# Altium schematic symbol library Microver.SchLib: 988 symbols (part 4 of 17)
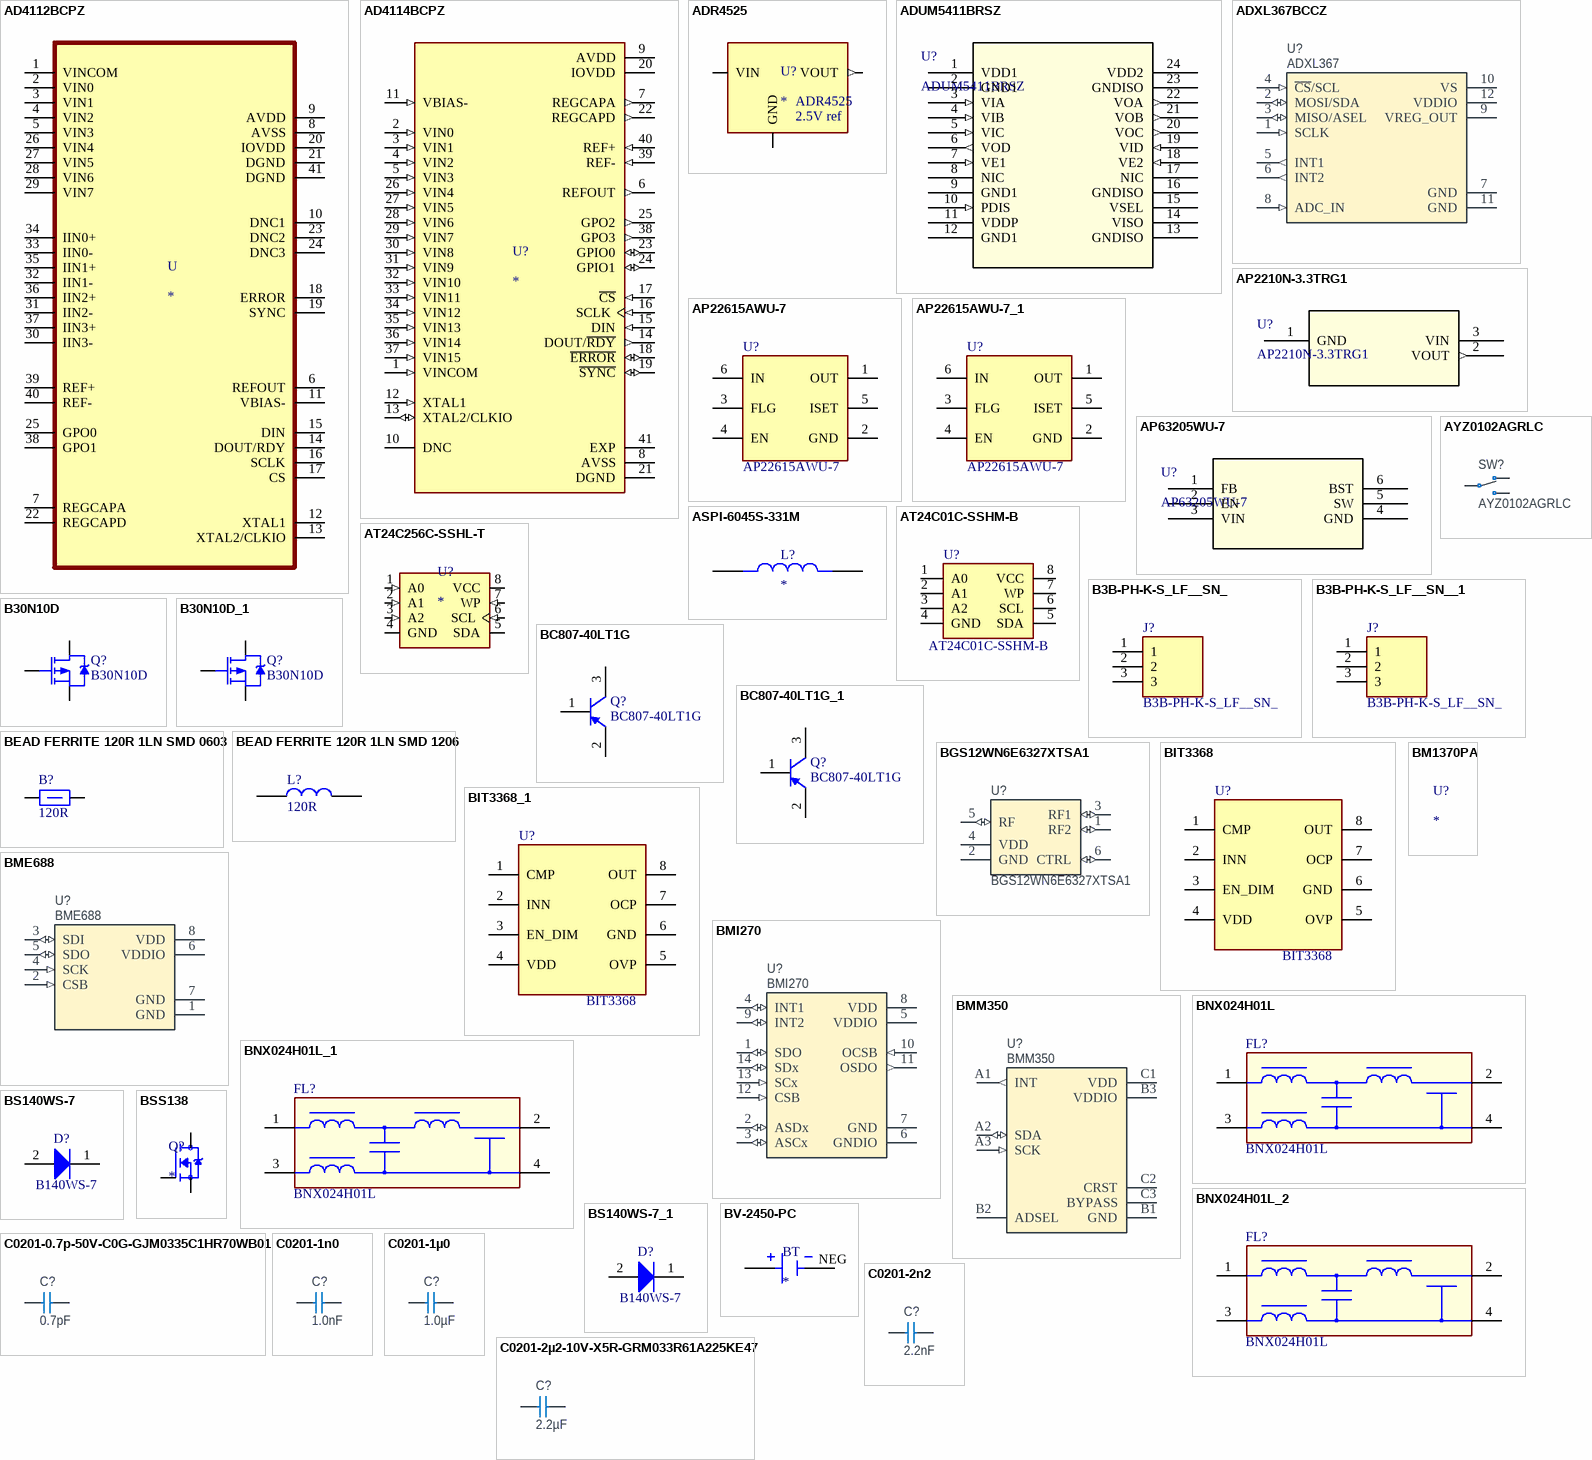
[diagram p32: symbols AD4112BCPZ to C0201-2µ2-10V-X5R-GRM033R61A225KE47]

## BC807-40LT1G
designator Q?
General Purpose Transistor, PNP Silicon, 3-Pin SOT-23, Pb-Free, Tape and Reel; Manufacturer: ON Semiconductor; Max Power Dissipation: 300mW; hFE Min: 250; Number of Elements: 1; Collector Emitter Voltage (VCEO): 45V; Frequency: 100MHz; Emitter Base Voltage (VEBO): 5V; Max Collector Current: 500mA; Collector Base Voltage (VCBO): 50V; Collector Emitter Saturation Voltage: -700mV; Element Configuration: Single; Collector-emitter Voltage-Max: 700mV; ComponentLink3URL: http://www.onsemi.cn/pub_link/Collateral/318-08.PDF; ComponentLink1URL: http://www.onsemi.com/; ComponentLink2URL: http://www.onsemi.com/pub_link/Collateral/BC807-16LT1-D.PDF; ComponentLink1Description: Manufacturer URL; ComponentLink3Description: Package Specification; ComponentLink2Description: Datasheet; Supplier 1: Digi-Key; Supplier Part Number 1: BC807-40LT1GOSCT-ND; Manufacturer Part Number: BC807-40LT1G; RoHS: Yes; Category: BJTs; Pricing 1: 1=0,21000, 10=0,19600, 100=0,10690, 500=0,06576, 1000=0,04484 (USD); Case/Package: SOT-23-3; Number of Pins: 3; Contact Plating: Tin,Matte; Min Operating Temperature: -55°C; Max Operating Temperature: 150°C; Package Quantity: 1; Packaging: Tape and Reel; Polarity: PNP; Transition Frequency: 100MHz; Collector Emitter Breakdown Voltage: 45V; Power Dissipation: 300mW; Gain Bandwidth Product: 100MHz; Series: BC807-40L; Max Breakdown Voltage: 45V; Max Frequency: 100MHz; Length: 2.9mm; Width: 1.3mm; Height: 0.94mm; Radiation Hardening: No; Lead Free: Lead Free; Halogen Free: Halogen Free; RoHS Compliant: Yes; REACH SVHC: No SVHC; ComponentLink4URL: https://datasheet.ciiva.com/15138/getdatasheetpartid-38541-15138619.pdf?src-supplier=Verical; ComponentLink4Description: https://datasheet.ciiva.com/15138/getdatasheetpartid-38541-15138619.pdf?src-supplier=Verical; ComponentLink5URL: https://datasheet.ciiva.com/976/bc807-16lt1-d-976422.pdf?src-supplier=Digi-Key; ComponentLink5Description: https://datasheet.ciiva.com/976/bc807-16lt1-d-976422.pdf?src-supplier=Digi-Key; ComponentLink6URL: https://datasheet.ciiva.com/976/bc807-16lt1-d-976423.pdf?src-supplier=Digi-Key; ComponentLink6Description: https://datasheet.ciiva.com/976/bc807-16lt1-d-976423.pdf?src-supplier=Digi-Key; ComponentLink7URL: https://datasheet.ciiva.com/976/bc807-16lt1-d-976424.pdf?src-supplier=Digi-Key; ComponentLink7Description: https://datasheet.ciiva.com/976/bc807-16lt1-d-976424.pdf?src-supplier=Digi-Key; ComponentLink8URL: https://datasheet.ciiva.com/22633/1575992-22633676.pdf?src-supplier=Element14; ComponentLink8Description: https://datasheet.ciiva.com/22633/1575992-22633676.pdf?src-supplier=Element14; ComponentLink9URL: https://datasheet.ciiva.com/16213/bc807-16lt1-d-16213981.pdf?src-supplier=Future+Electronics; ComponentLink9Description: https://datasheet.ciiva.com/16213/bc807-16lt1-d-16213981.pdf?src-supplier=Future+Electronics; ComponentLink10URL: https://datasheet.ciiva.com/22633/1575992-22633677.pdf?src-supplier=Element14; ComponentLink10Description: https://datasheet.ciiva.com/22633/1575992-22633677.pdf?src-supplier=Element14; ComponentLink11URL: https://datasheet.ciiva.com/25917/bc807-16lt1-d-25917198.pdf?src-supplier=Avnet+Europe; ComponentLink11Description: https://datasheet.ciiva.com/25917/bc807-16lt1-d-25917198.pdf?src-supplier=Avnet+Europe; LCSC Part Number: BC807-40LT1G
footprint ONSC-SOT-23-3-318-08_V
pins: 1 B, 2 E, 3 C

## BC807-40LT1G_1
designator Q?, comment BC807-40LT1G
General Purpose Transistor, PNP Silicon, 3-Pin SOT-23, Pb-Free, Tape and Reel; Manufacturer: ON Semiconductor; Max Power Dissipation: 300mW; hFE Min: 250; Number of Elements: 1; Collector Emitter Voltage (VCEO): 45V; Frequency: 100MHz; Emitter Base Voltage (VEBO): 5V; Max Collector Current: 500mA; Collector Base Voltage (VCBO): 50V; Collector Emitter Saturation Voltage: -700mV; Element Configuration: Single; Collector-emitter Voltage-Max: 700mV; ComponentLink3URL: http://www.onsemi.cn/pub_link/Collateral/318-08.PDF; ComponentLink1URL: http://www.onsemi.com/; ComponentLink2URL: http://www.onsemi.com/pub_link/Collateral/BC807-16LT1-D.PDF; ComponentLink1Description: Manufacturer URL; ComponentLink3Description: Package Specification; ComponentLink2Description: Datasheet; Supplier 1: Digi-Key; Supplier Part Number 1: BC807-40LT1GOSCT-ND; Manufacturer Part Number: BC807-40LT1G; RoHS: Yes; Category: BJTs; Pricing 1: 1=0,21000, 10=0,19600, 100=0,10690, 500=0,06576, 1000=0,04484 (USD); Case/Package: SOT-23-3; Number of Pins: 3; Contact Plating: Tin,Matte; Min Operating Temperature: -55°C; Max Operating Temperature: 150°C; Package Quantity: 1; Packaging: Tape and Reel; Polarity: PNP; Transition Frequency: 100MHz; Collector Emitter Breakdown Voltage: 45V; Power Dissipation: 300mW; Gain Bandwidth Product: 100MHz; Series: BC807-40L; Max Breakdown Voltage: 45V; Max Frequency: 100MHz; Length: 2.9mm; Width: 1.3mm; Height: 0.94mm; Radiation Hardening: No; Lead Free: Lead Free; Halogen Free: Halogen Free; RoHS Compliant: Yes; REACH SVHC: No SVHC; ComponentLink4URL: https://datasheet.ciiva.com/15138/getdatasheetpartid-38541-15138619.pdf?src-supplier=Verical; ComponentLink4Description: https://datasheet.ciiva.com/15138/getdatasheetpartid-38541-15138619.pdf?src-supplier=Verical; ComponentLink5URL: https://datasheet.ciiva.com/976/bc807-16lt1-d-976422.pdf?src-supplier=Digi-Key; ComponentLink5Description: https://datasheet.ciiva.com/976/bc807-16lt1-d-976422.pdf?src-supplier=Digi-Key; ComponentLink6URL: https://datasheet.ciiva.com/976/bc807-16lt1-d-976423.pdf?src-supplier=Digi-Key; ComponentLink6Description: https://datasheet.ciiva.com/976/bc807-16lt1-d-976423.pdf?src-supplier=Digi-Key; ComponentLink7URL: https://datasheet.ciiva.com/976/bc807-16lt1-d-976424.pdf?src-supplier=Digi-Key; ComponentLink7Description: https://datasheet.ciiva.com/976/bc807-16lt1-d-976424.pdf?src-supplier=Digi-Key; ComponentLink8URL: https://datasheet.ciiva.com/22633/1575992-22633676.pdf?src-supplier=Element14; ComponentLink8Description: https://datasheet.ciiva.com/22633/1575992-22633676.pdf?src-supplier=Element14; ComponentLink9URL: https://datasheet.ciiva.com/16213/bc807-16lt1-d-16213981.pdf?src-supplier=Future+Electronics; ComponentLink9Description: https://datasheet.ciiva.com/16213/bc807-16lt1-d-16213981.pdf?src-supplier=Future+Electronics; ComponentLink10URL: https://datasheet.ciiva.com/22633/1575992-22633677.pdf?src-supplier=Element14; ComponentLink10Description: https://datasheet.ciiva.com/22633/1575992-22633677.pdf?src-supplier=Element14; ComponentLink11URL: https://datasheet.ciiva.com/25917/bc807-16lt1-d-25917198.pdf?src-supplier=Avnet+Europe; ComponentLink11Description: https://datasheet.ciiva.com/25917/bc807-16lt1-d-25917198.pdf?src-supplier=Avnet+Europe; LCSC Part Number: BC807-40LT1G
footprint ONSC-SOT-23-3-318-08_V
pins: 1 B, 2 E, 3 C

## BEAD FERRITE 120R 1LN SMD 0603
designator B?  value 120R  (hidden comment: BEAD FERRITE 120R 1LN SMD 0603)
Manufacturer: MURATA; Manufacturer Part Name: BLM18PG121SN1D; Code: 3030007; Family: BEAD; Supplier: Digikey; Supplier No: 490-1037-2-ND; Package Reference: F1206
footprint F0603 (WE-CBF SMD EMI Suppression Ferrite Bead)
pins: 1, 2

## BEAD FERRITE 120R 1LN SMD 1206
designator L?  value 120R  (hidden comment: BEAD FERRITE 120R 1LN SMD 1206)
Manufacturer: LAIRD; Manufacturer Part Name: LI1206H121R-10; Code: 3030001; Family: BEAD; Supplier: Digikey; Supplier No: 240-2401-2-ND; Package Reference: F1206
footprint F1206N (Chip Inductor, Body 3.2x1.6mm, IPC Medium Density)
pins: 1, 2

## BGS12WN6E6327XTSA1
designator U?, comment value BGS12WN6E6327XTSA1  (hidden comment: BGS12xN6)
Wideband SPDT RF Switch, 50MHz-6GHz. Max 26dBm, 1.65-3.6V; Manufacturer: Infineon Technologies; Part number NEMS: 101900784; Component Status: Active; Pad Count: 6; Note: N.A.; Part Number: BGS12WN6E6327XTSA1; Component Class: Misc_ICs; Author: getr; Manufacturer Part Number: BGS12WN6E6327XTSA1; ComponentLink1URL: https://www.infineon.com/dgdl/Infineon-BGS12WN6-DataSheet-v01_00-EN.pdf?fileId=5546d4626b2d8e69016b89d2b3334727; ComponentLink1Description: Datasheet; ComponentLink2URL: https://www.digikey.no/en/products/detail/infineon-technologies/BGS12WN6E6327XTSA1/11500249?s=N4IgTCBcDaIEIHEDKBGMB1AcgNgKLYGYwB2ADQBUkBBFEAXQF8g; ComponentLink2Description: Supplier link; HelpURL: https://www.infineon.com/cms/en/product/rf/rf-switches-spxt-dpxt/bgs12wn6/; LatestRevisionDate: 2023-06-26; Published: 2023-06-26; Footprint Doc: TSNP-6-8; Supplier 1: Digi-Key; Supplier Part Number 1: 448-BGS12WN6E6327XTSA1CT-ND; Supplier 2: N.A.; Supplier Part Number 2: N.A.; Artikkelnr Noca: N.A.; Part number IPS: N.A.; Part number Norautron: N.A.; PartId: 101900784
footprint TSNP-6-8
pins: 1 RF2 (io), 2 GND (power), 3 RF1 (io), 4 VDD (power), 5 RF (io), 6 CTRL (io), 8 NC hidden

## BIT3368
designator U?, comment Manufacturer Part Number: BIT3368  (hidden comment: BIT3368 LED DRIVER CONTROLLER)
High Performance PWM Controller; Manufacturer: BITEK; LSCS Part Number: C5252694
footprint SOP-8_L4.9-W3.9-P1.27-LS6.0-BL
pins: 1 CMP, 2 INN, 3 EN_DIM, 4 VDD, 5 OVP, 6 GND, 7 OCP, 8 OUT

## BIT3368_1
designator U?, comment Manufacturer Part Number: BIT3368  (hidden comment: BIT3368 LED DRIVER CONTROLLER)
High Performance PWM Controller; Manufacturer: BITEK; LSCS Part Number: C5252694
footprint SOP-8_L4.9-W3.9-P1.27-LS6.0-BL
pins: 1 CMP, 2 INN, 3 EN_DIM, 4 VDD, 5 OVP, 6 GND, 7 OCP, 8 OUT

## BM1370PA
designator U?

## BME688
designator U?
Low power gas, pressure, temperature & humidity sensor; Manufacturer: Bosch; Part number NEMS: 101900619; Note: N.A.; Component Status: Active; Pad Count: 8; Part Number: BME688; Manufacturer Part Number: BME688; Footprint Doc: LGA-8; LatestRevisionDate: 2020-07-07; Published: 2020-07-07; Value: BME688; Artikkelnr Noca: N.A.; Part number IPS: N.A.; ComponentLink1URL: https://ae-bst.resource.bosch.com/media/_tech/media/datasheets/BST-BME680-DS001-00.pdf; ComponentLink1Description: Datasheet; ComponentLink2Description: Supplier link; HelpURL: N.A.; Supplier 1: Digi-Key; Supplier Part Number 1: N.A.; Supplier 2: N.A.; Supplier Part Number 2: N.A.; PartId: 101900619; Component Class: Misc_ICs; Author: rsk; ComponentLink2URL: N.A.; Part number Norautron: N.A.
footprint BME680
pins: 1 GND (power), 2 CSB (in), 3 SDI (io), 4 SCK (in), 5 SDO (io), 6 VDDIO (power) "1.2V - 3.6V", 7 GND (power), 8 VDD (power) "1.71V - 3.6V"

## BMI270
designator U?
6-axis, smart, low-power, inertial measurement unit; Manufacturer: Bosch; Part number NEMS: 101900620; Note: N.A.; Pad Count: 14; Component Status: Active; Part Number: BMI270; Manufacturer Part Number: BMI270; ComponentLink1URL: https://www.bosch-sensortec.com/media/boschsensortec/downloads/datasheets/bst-bmi270-ds000.pdf; ComponentLink1Description: Datasheet; ComponentLink2URL: https://www.bosch-sensortec.com/products/motion-sensors/imus/bmi270.html; ComponentLink2Description: Supplier link; HelpURL: https://www.bosch-sensortec.com/media/boschsensortec/downloads/datasheets/bst-bmi270-ds000.pdf; Footprint Doc: LGA-14; LatestRevisionDate: 2021-08-03; Published: 2020-07-07; Value: BMI270; Supplier 1: Digi-Key; Supplier Part Number 1: 828-1091-1-ND; Supplier 2: Mouser; Supplier Part Number 2: 262-BMI270; Artikkelnr Noca: N.A.; Part number IPS: N.A.; Component Class: Misc_ICs; PartId: 101900620; Author: rsk; Part number Norautron: N.A.
footprint BMI270
pins: 1 SDO (io), 2 ASDx (io), 3 ASCx (io), 4 INT1 (io), 5 VDDIO (power), 6 GNDIO (power), 7 GND (power), 8 VDD (power), 9 INT2 (io), 10 OCSB (in), 11 OSDO (out), 12 CSB (in), 13 SCx (in), 14 SDx (io)

## BMM350
designator U?
Magnetoresistive Sensor X, Y, Z Axis 9-WLCSP (1.28x1.28); Manufacturer: Bosch Sensortec; Part number NEMS: 101900817; Component Status: Active; Pad Count: 9; Note: N.A.; Part Number: BMM350; PartId: 101900817; Component Class: Misc_ICs; Author: getr; Manufacturer Part Number: BMM350; ComponentLink1URL: https://www.bosch-sensortec.com/media/boschsensortec/downloads/datasheets/bst-bmm350-ds001.pdf; ComponentLink1Description: Datasheet; ComponentLink2URL: https://www.digikey.no/en/products/detail/bosch-sensortec/BMM350/17827576; ComponentLink2Description: Supplier link; HelpURL: https://www.bosch-sensortec.com/products/motion-sensors/magnetometers/bmm350/#description; LatestRevisionDate: 2024-04-26; Published: 2024-04-26; Footprint Doc: WLSCP-9; Value: BMM350; Supplier 1: Digi-Key; Supplier Part Number 1: 828-BMM350CT-ND; Supplier 2: Mouser; Supplier Part Number 2: 262-BMM350; Artikkelnr Noca: N.A.; Part number IPS: N.A.; Part number Norautron: N.A.
footprint BGA9C40P3X3_128X128X54
pins: A1 INT (out), A2 SDA (io), A3 SCK (in), B1 GND (power), B2 ADSEL (power), B3 VDDIO (power), C1 VDD (power), C2 CRST (power), C3 BYPASS (power)

## BNX024H01L
designator FL?, comment Manufacturer Part Number: BNX024H01L  (hidden comment: FILTER LC 4.7UF SMD)
LC EMI Filter 5th Order Low Pass 2 Channel C = 4.7µF 20 A 4-SMD, No Lead; Order Code: Digi: 490-7833-2-ND; LCSC Manufacturer Part Number: BNX024H01L; LCSC Part Number: C124739
footprint Murata_BNX02_MFG
pins: 1 B, 2 CB, 3 PSG, 4 CG

## BNX024H01L_1
designator FL?, comment Manufacturer Part Number: BNX024H01L  (hidden comment: FILTER LC 4.7UF SMD)
LC EMI Filter 5th Order Low Pass 2 Channel C = 4.7µF 20 A 4-SMD, No Lead; Order Code: Digi: 490-7833-2-ND; LCSC Manufacturer Part Number: BNX024H01L; LCSC Part Number: C124739
footprint Murata_BNX02_MFG
pins: 1 B, 2 CB, 3 PSG, 4 CG

## BNX024H01L_2
designator FL?, comment Manufacturer Part Number: BNX024H01L  (hidden comment: FILTER LC 4.7UF SMD)
LC EMI Filter 5th Order Low Pass 2 Channel C = 4.7µF 20 A 4-SMD, No Lead; Order Code: Digi: 490-7833-2-ND; LCSC Manufacturer Part Number: BNX024H01L; LCSC Part Number: C124739
footprint Murata_BNX02_MFG
pins: 1 B, 2 CB, 3 PSG, 4 CG

## BS140WS-7
designator D?, comment Manufacturer Part Number: B140WS-7  (hidden comment: DIODE SCHOTTKY 40V 1A SOD323)
Diode 40 V 1A Surface Mount SOD-323; Order Code: Digi: B140WS-7DITR-ND; LCSC Manufacturer Part Number: B140WS-7; LCSC Part Number: C95171
footprint SOD-323_L1.8-W1.3-LS2.5-RD
pins: 1 K, 2 A

## BS140WS-7_1
designator D?, comment Manufacturer Part Number: B140WS-7  (hidden comment: DIODE SCHOTTKY 40V 1A SOD323)
Diode 40 V 1A Surface Mount SOD-323; Order Code: Digi: B140WS-7DITR-ND; LCSC Manufacturer Part Number: B140WS-7; LCSC Part Number: C95171
footprint SOD-323_L1.8-W1.3-LS2.5-RD
pins: 1 K, 2 A

## BSS138
designator Q?
N-Channel 50 V 220mA (Ta) 350mW (Ta) Surface Mount SOT-23-3; MF: onsemi; MP: BSS138; SnapEDA_Link: https://www.snapeda.com/parts/BSS138/Onsemi/view-part/?ref=snap; Package: SOT-23-3 ON Semiconductor; Value: *; Check_prices: https://www.snapeda.com/parts/BSS138/Onsemi/view-part/?ref=eda
footprint SOT95P240X111-3N
pins: 1 G, 2 S, 3 D

## BV-2450-PC
designator BT
BATTERY HOLDER COIN 24MM PC PIN; MP: BV-2450-PC; MF: MPD; Value: *; SnapEDA_Link: https://www.snapeda.com/parts/BV-2450-PC/Memory%20Protection%20Devices/view-part/4219619/?ref=snap; Availability: Unavailable; Price: None; Package: NONSTANDARD
footprint BAT_BV-2450-PC
pins: NEG, S1+ POS, S2+ POS

## C0201-0.7p-50V-C0G-GJM0335C1HR70WB01
designator C?, comment 0.7pF
Capacitor, Ceramic, C0G, ±0.05pF, 50V; Part Number: C0201-0.7p-50V-C0G-GJM0335C1HR70WB01; Manufacturer: Murata; Manufacturer Part Number: GJM0335C1HR70WB01D; Part number NEMS: 100200011; Pad Count: 2; Artikkelnr Noca: N.A.; Component Status: Active; Value: 0.7pF; Footprint Doc: 0201; Component Class: Capacitors; Author: rsk; ComponentLink1Description: Datasheet; ComponentLink1URL: https://search.murata.co.jp/Ceramy/image/img/A01X/G101/ENG/GJM0335C1HR70WB01-01.pdf; ComponentLink2Description: Supplier link; ComponentLink2URL: https://www.murata.com/en-global/products/productdetail?partno=GJM0335C1HR70WB01%23; HelpURL: N.A.; LatestRevisionDate: 2023-03-27; Note: 50V; PartId: 100200011; Part number IPS: N.A.; Part number Norautron: N.A.; Published: 2014-11-13; Supplier 1: Digi-Key; Supplier 2: Mouser; Supplier Part Number 1: 490-17145-1-ND; Supplier Part Number 2: 81-GJM0335C1HR70WB1D
footprint CAPC0603X03L_C
pins: 1, 2

## C0201-1n0
designator C?, comment 1.0nF
Capacitor, X7R, ±10%, 25V; Part Number: C0201-1n0; Manufacturer: N.A.; Part number IPS: 00000003206; Part number NEMS: 100200056; Component Status: Active; Pad Count: 2; Note: 16V; PartId: 100200056; Component Class: Capacitors; Author: rsk; Manufacturer Part Number: N.A.; ComponentLink1URL: N.A.; ComponentLink1Description: Datasheet; ComponentLink2URL: N.A.; ComponentLink2Description: Supplier link; HelpURL: N.A.; LatestRevisionDate: 2020-10-13; Published: 2014-11-13; Footprint Doc: 0201; Value: 1.0nF; Supplier 1: N.A.; Supplier Part Number 1: N.A.; Supplier 2: N.A.; Supplier Part Number 2: N.A.; Artikkelnr Noca: N.A.; Part number Norautron: N.A.
footprint CAPC0603X03L_C
pins: 1, 2

## C0201-1µ0
designator C?, comment 1.0µF
Capacitor, X5R, ±10%; Part Number: C0201-1µ0; Manufacturer: N.A.; Part number IPS: 00000001723; Part number NEMS: 100200084; Pad Count: 2; Component Status: Active; Note: 10V; Component Class: Capacitors; Author: rsk; Footprint Doc: 0201; Value: 1.0µF; PartId: 100200084; Manufacturer Part Number: N.A.; ComponentLink1URL: N.A.; ComponentLink1Description: Datasheet; ComponentLink2URL: N.A.; ComponentLink2Description: Supplier link; HelpURL: N.A.; LatestRevisionDate: 2016-08-22; Published: 2009-05-08; Supplier 1: Digi-Key; Supplier Part Number 1: 1276-6795-1-ND; Supplier 2: N.A.; Supplier Part Number 2: N.A.; Artikkelnr Noca: N.A.; Part number Norautron: N.A.
footprint CAPC0603X03L_C
pins: 1, 2

## C0201-2n2
designator C?, comment 2.2nF
Capacitor, X7R, ±10%, 10V; Part Number: C0201-2n2; Part number IPS: 00000001778; Part number Norautron: 26470002; Part number NEMS: 100200060; Pad Count: 2; Artikkelnr Noca: N.A.; Component Status: Active; Value: 2.2nF; Footprint Doc: 0201; Component Class: Capacitors; Author: rsk; ComponentLink1Description: Datasheet; ComponentLink1URL: N.A.; ComponentLink2Description: Supplier link; ComponentLink2URL: N.A.; HelpURL: N.A.; LatestRevisionDate: 2014-11-13; Manufacturer: N.A.; Manufacturer Part Number: N.A.; Note: 10V; PartId: 100200060; Published: 2014-11-13; Supplier 1: N.A.; Supplier 2: N.A.; Supplier Part Number 1: N.A.; Supplier Part Number 2: N.A.
footprint CAPC0603X03L_C
pins: 1, 2

## C0201-2µ2-10V-X5R-GRM033R61A225KE47
designator C?, comment 2.2µF
Capacitor, Ceramic, 2.2µF 10V X5R 0201,±10%; Part Number: C0201-2µ2-10V-X5R-GRM033R61A225KE47; Manufacturer: Murata; Manufacturer Part Number: GRM033R61A225KE47D; Part number NEMS: 100200496; Pad Count: 2; Artikkelnr Noca: N.A.; Component Status: Active; Component Class: Capacitors; Author: prbu; ComponentLink1URL: https://www.murata.com/en-sg/products/productdetail?partno=GRM033R61A225KE47%23; ComponentLink1Description: Datasheet; ComponentLink2URL: https://www.mouser.com/ProductDetail/Murata-Electronics/GRM033R61A225KE47D?qs=I53XXhTNm8tqgHaFsI1bug%3D%3D; ComponentLink2Description: Supplier link; HelpURL: N.A.; Footprint Doc: 0201; LatestRevisionDate: 2021-12-09; Published: 2021-12-09; Value: 2.2µF; Note: 10V; Supplier 1: Mouser; Supplier Part Number 1: 81-GRM033R61A225KE7D; Supplier 2: Digi-Key; Supplier Part Number 2: 490-13227-1-ND; Part number IPS: N.A.; Part number Norautron: N.A.; PartId: 100200496
footprint CAPC0603X03L_C
pins: 1, 2

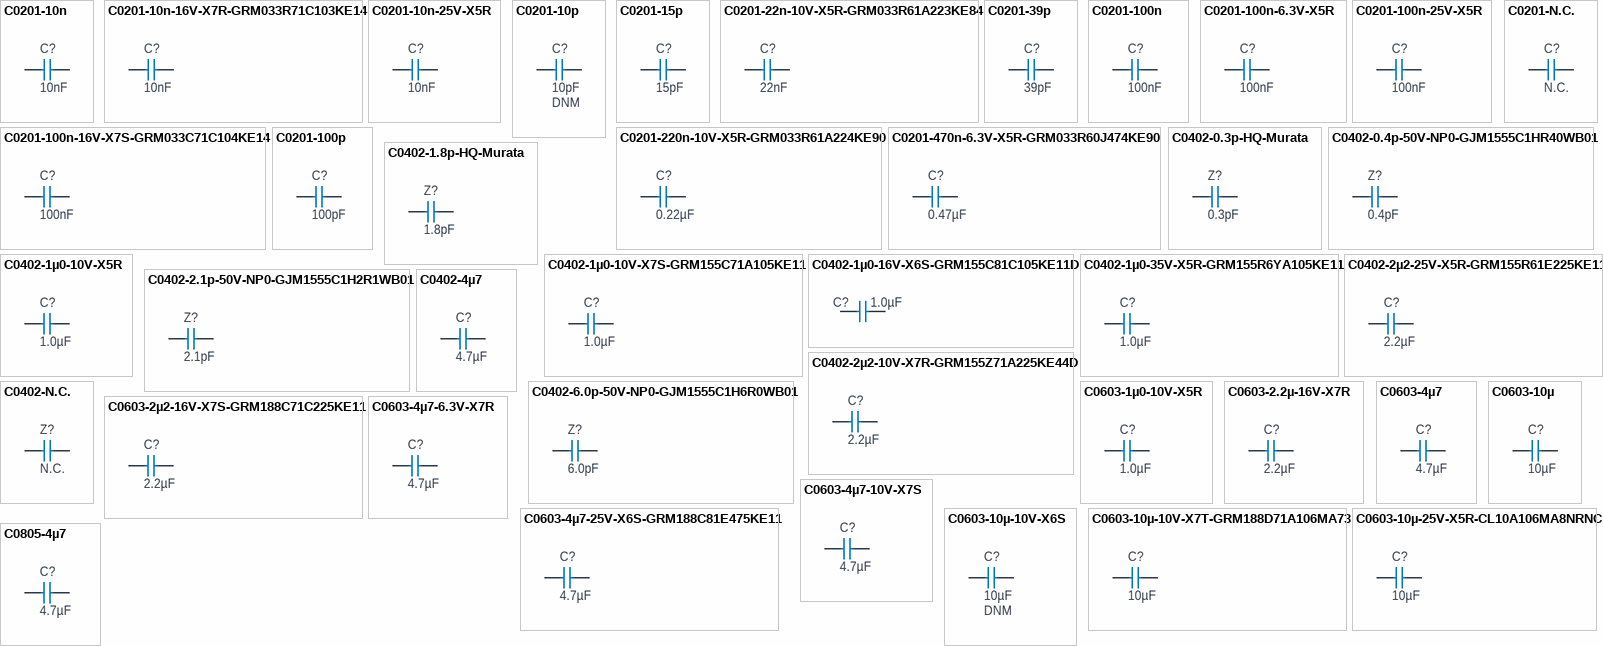
[diagram p5: symbols C0201-10n to C0805-4µ7]

## C0201-10n
designator C?, comment 10nF
Capacitor, X7R, ±10%; Part Number: C0201-10n; Manufacturer: N.A.; Part number IPS: 00000003480; Part number Norautron: 26621779; Part number NEMS: 100200067; Note: 10V; Pad Count: 2; Component Status: Active; Manufacturer Part Number: N.A.; Footprint Doc: 0201; LatestRevisionDate: 2017-11-09; Published: 2014-11-13; Value: 10nF; Artikkelnr Noca: N.A.; ComponentLink1URL: N.A.; ComponentLink1Description: Datasheet; ComponentLink2URL: N.A.; ComponentLink2Description: Supplier link; HelpURL: N.A.; Supplier 1: N.A.; Supplier Part Number 1: N.A.; Supplier 2: N.A.; Supplier Part Number 2: N.A.; Author: rsk; Component Class: Capacitors; PartId: 100200067
footprint CAPC0603X03L_C
pins: 1, 2

## C0201-10n-16V-X7R-GRM033R71C103KE14
designator C?, comment 10nF
Capacitor, Ceramic, 10nF 16V X7R 0201,±10%; Part Number: C0201-10n-16V-X7R-GRM033R71C103KE14; Manufacturer: Murata; Manufacturer Part Number: GRM033R71C103KE14D; Part number NEMS: 100200491; Pad Count: 2; Artikkelnr Noca: N.A.; Component Status: Active; Component Class: Capacitors; Author: prbu; ComponentLink1URL: https://www.murata.com/en-sg/products/productdetail?partno=GRM033R71C103KE14%23; ComponentLink1Description: Datasheet; ComponentLink2URL: https://www.mouser.com/ProductDetail/Murata-Electronics/GRM033R71C103KE14D?qs=QzBtWTOodeUmwPFZnw4Ogg%3D%3D; ComponentLink2Description: Supplier link; HelpURL: N.A.; Footprint Doc: 0201; LatestRevisionDate: 2021-12-09; Published: 2021-12-09; Value: 10nF; Note: 16V; Supplier 1: Digi-Key; Supplier Part Number 1: 490-14453-1-ND; Supplier 2: Mouser; Supplier Part Number 2: 81-GRM033R71C103KE4D; Part number IPS: N.A.; Part number Norautron: N.A.; PartId: 100200491
footprint CAPC0603X03L_C
pins: 1, 2

## C0201-10n-25V-X5R
designator C?, comment 10nF
Capacitor, Ceramic, X5R, ±10%, 25V; Part Number: C0201-10n-25V-X5R; Manufacturer: Murata; Manufacturer Part Number: GRM033R61E103KA12D; Part number NEMS: 100200458; Artikkelnr Noca: N.A.; Pad Count: 2; Component Status: Active; LatestRevisionDate: 2020-12-16; Published: 2020-12-16; Value: 10nF; Note: 25V; Footprint Doc: 0201; Part number IPS: N.A.; ComponentLink1URL: https://search.murata.co.jp/Ceramy/image/img/A01X/G101/ENG/GRM033R61E103KA12-01.pdf; ComponentLink1Description: Datasheet; ComponentLink2URL: https://www.murata.com/en-global/products/productdetail?partno=GRM033R61E103KA12%23; ComponentLink2Description: Supplier link; HelpURL: N.A.; Supplier 1: Digi-Key; Supplier Part Number 1: 490-7194-1-ND; Supplier 2: Mouser; Supplier Part Number 2: 81-GRM033R61E103KA2D; Component Class: Capacitors; PartId: 100200458; Author: rsk; Part number Norautron: N.A.
footprint CAPC0603X03L_C
pins: 1, 2

## C0201-10p
designator C?, comment 10pF  Assembly: DNM
Capacitor, C0G, ±5%, 25V; Part Number: C0201-10p; Manufacturer: Murata; Manufacturer Part Number: GRM0335C1E100JA01D; Part number IPS: 00000003191; Part number NEMS: 100200032; Note: Chip Cap 1%; Artikkelnr Noca: N.A.; Pad Count: 2; Component Status: Active; LatestRevisionDate: 2020-10-13; Published: 2014-11-13; Value: 10pF; Footprint Doc: 0201; ComponentLink1URL: N.A.; ComponentLink1Description: Datasheet; ComponentLink2URL: N.A.; ComponentLink2Description: Supplier link; HelpURL: N.A.; Supplier 1: N.A.; Supplier Part Number 1: N.A.; Supplier 2: N.A.; Supplier Part Number 2: N.A.; Component Class: Capacitors; PartId: 100200032; Author: rsk; Part number Norautron: N.A.
footprint CAPC0603X03L_C
pins: 1, 2

## C0201-15p
designator C?, comment 15pF
Capacitor, NP0, ±5%, 25V; Part Number: C0201-15p; Manufacturer: Murata; Manufacturer Part Number: GRM0335C1E150JA01D; Part number IPS: 00000003193; Part number NEMS: 100200034; Pad Count: 2; Component Status: Active; Artikkelnr Noca: N.A.; Footprint Doc: 0201; Value: 15pF; Author: rsk; PartId: 100200034; Component Class: Capacitors; ComponentLink1URL: N.A.; ComponentLink1Description: Datasheet; ComponentLink2URL: N.A.; ComponentLink2Description: Supplier link; HelpURL: N.A.; LatestRevisionDate: 2023-01-06; Published: 2014-11-13; Note: 25V; Supplier 1: N.A.; Supplier Part Number 1: N.A.; Supplier 2: N.A.; Supplier Part Number 2: N.A.; Part number Norautron: N.A.
footprint CAPC0603X03L_C
pins: 1, 2

## C0201-22n-10V-X5R-GRM033R61A223KE84
designator C?, comment 22nF
Capacitor, Ceramic, 22nF 10V X5R 0201,±10%; Part Number: C0201-22n-10V-X5R-GRM033R61A223KE84; Manufacturer: Murata; Manufacturer Part Number: GRM033R61A223KE84D; Part number NEMS: 100200495; Pad Count: 2; Artikkelnr Noca: N.A.; Component Status: Active; Component Class: Capacitors; Author: prbu; ComponentLink1URL: https://www.murata.com/en-sg/products/productdetail?partno=GRM033R61A223KE84%23; ComponentLink1Description: Datasheet; ComponentLink2URL: https://www.mouser.com/ProductDetail/Murata-Electronics/GRM033R61A223KE84E?qs=BZBei1rCqCCPqziwOnRusw%3D%3D; ComponentLink2Description: Supplier link; HelpURL: N.A.; Footprint Doc: 0201; LatestRevisionDate: 2021-12-09; Published: 2021-12-09; Value: 22nF; Note: 10V; Supplier 1: Mouser; Supplier Part Number 1: 81-GRM033R61A223KE4E; Supplier 2: Digi-Key; Supplier Part Number 2: 490-13334-1-ND; Part number IPS: N.A.; Part number Norautron: N.A.; PartId: 100200495
footprint CAPC0603X03L_C
pins: 1, 2

## C0201-39p
designator C?, comment 39pF
Capacitor, NP0, ±1%, 25V; Part Number: C0201-39p; Manufacturer: Murata; Manufacturer Part Number: GRM0335C1E390FA01D; Part number IPS: 00000001668; Part number NEMS: 100200039; Artikkelnr Noca: N.A.; Pad Count: 2; Component Status: Active; ComponentLink1URL: N.A.; ComponentLink1Description: Datasheet; ComponentLink2URL: N.A.; ComponentLink2Description: Supplier link; HelpURL: N.A.; Footprint Doc: 0201; LatestRevisionDate: 2019-04-16; Published: 2019-04-16; Value: 39pF; Note: 25V; Supplier 1: N.A.; Supplier Part Number 1: N.A.; Supplier 2: N.A.; Supplier Part Number 2: N.A.; PartId: 100200039; Component Class: Capacitors; Author: rsk; Part number Norautron: N.A.
footprint CAPC0603X03L_C
pins: 1, 2

## C0201-100n
designator C?, comment 100nF
Capacitor, X5R, ±10%; Part Number: C0201-100n; Manufacturer: N.A.; Part number IPS: 00000001248, 00000002505; Part number Norautron: 262071862; Part number NEMS: 100200078; Note: 16V; Pad Count: 2; Component Status: Active; Manufacturer Part Number: N.A.; ComponentLink1URL: N.A.; ComponentLink1Description: Datasheet; ComponentLink2URL: N.A.; ComponentLink2Description: Supplier link; HelpURL: N.A.; Footprint Doc: 0201; LatestRevisionDate: 2017-11-09; Published: 2014-11-13; Value: 100nF; Supplier 1: N.A.; Supplier Part Number 1: N.A.; Supplier 2: N.A.; Supplier Part Number 2: N.A.; Artikkelnr Noca: N.A.; PartId: 100200078; Component Class: Capacitors; Author: rsk
footprint CAPC0603X03L_C
pins: 1, 2

## C0201-100n-6.3V-X5R
designator C?, comment 100nF
Capacitor, Ceramic, X5R, ±10%, 6.3V; Part Number: C0201-100n-6.3V-X5R; Manufacturer: Murata; Manufacturer Part Number: GRM033R60J104KE19D; Part number NEMS: 100200451; Artikkelnr Noca: N.A.; Pad Count: 2; Component Status: Active; Footprint Doc: 0201; LatestRevisionDate: 2020-12-15; Published: 2020-12-15; Value: 100nF; Note: 6.3V; Part number IPS: N.A.; ComponentLink1URL: https://search.murata.co.jp/Ceramy/image/img/A01X/G101/ENG/GRM033R60J104KE19-01.pdf; ComponentLink1Description: Datasheet; ComponentLink2URL: https://www.murata.com/en-eu/products/productdetail?partno=GRM033R60J104KE19%23; ComponentLink2Description: Supplier link; HelpURL: N.A.; Supplier 1: Digi-Key; Supplier Part Number 1: 490-3167-1-ND; Supplier 2: N.A.; Supplier Part Number 2: N.A.; Component Class: Capacitors; PartId: 100200451; Author: rsk; Part number Norautron: N.A.
footprint CAPC0603X03L_C
pins: 1, 2

## C0201-100n-16V-X7S-GRM033C71C104KE14
designator C?, comment 100nF
Capacitor, Ceramic, 100nF 16V X7S 0201,±10%; Part Number: C0201-100n-16V-X7S-GRM033C71C104KE14; Manufacturer: Murata; Manufacturer Part Number: GRM033C71C104KE14D; Part number NEMS: 100200494; Pad Count: 2; Artikkelnr Noca: N.A.; Component Status: Active; PartId: 100200494; Component Class: Capacitors; Author: prbu; ComponentLink1URL: https://www.murata.com/en-sg/products/productdetail?partno=GRM033C71C104KE14%23; ComponentLink1Description: Datasheet; ComponentLink2URL: https://www.mouser.com/ProductDetail/Murata-Electronics/GRM033C71C104KE14D?qs=P%2FC4Eoq9CDzkjc0H6wJP9A%3D%3D; ComponentLink2Description: Supplier link; HelpURL: N.A.; Footprint Doc: 0201; LatestRevisionDate: 2021-12-09; Published: 2021-12-09; Value: 100nF; Note: 16V; Supplier 1: Mouser; Supplier Part Number 1: 81-GRM33C71C104KE14D; Supplier 2: Digi-Key; Supplier Part Number 2: 490-10387-1-ND; Part number IPS: N.A.; Part number Norautron: N.A.
footprint CAPC0603X03L_C
pins: 1, 2

## C0201-100n-25V-X5R
designator C?, comment 100nF
Capacitor, Ceramic, X5R, ±10%, 25V; Part Number: C0201-100n-25V-X5R; Manufacturer: Murata; Manufacturer Part Number: GRM033R61E104KE14J; Part number NEMS: 100200459; Artikkelnr Noca: N.A.; Pad Count: 2; Component Status: Active; LatestRevisionDate: 2020-12-16; Published: 2020-12-16; Value: 100nF; Note: 25V; Footprint Doc: 0201; Part number IPS: N.A.; ComponentLink1URL: https://search.murata.co.jp/Ceramy/image/img/A01X/G101/ENG/GRM033R61E104KE14-01.pdf; ComponentLink1Description: Datasheet; ComponentLink2URL: https://www.murata.com/en-global/products/productdetail?partno=GRM033R61E104KE14%23; ComponentLink2Description: Supplier link; HelpURL: N.A.; Supplier 1: Digi-Key; Supplier Part Number 1: 490-14571-1-ND; Supplier 2: Mouser; Supplier Part Number 2: 81-GRM033R61E104KE4J; Component Class: Capacitors; PartId: 100200459; Author: rsk; Part number Norautron: N.A.
footprint CAPC0603X03L_C
pins: 1, 2

## C0201-100p
designator C?, comment 100pF
Capacitor, NP0, ±2%, 25V; Part Number: C0201-100p; Manufacturer: Murata; Manufacturer Part Number: GRM0335C1E101GA01D; Part number IPS: 00000007853; Part number NEMS: 100200044; Artikkelnr Noca: N.A.; Pad Count: 2; Component Status: Active; ComponentLink1URL: N.A.; ComponentLink1Description: Datasheet; ComponentLink2URL: N.A.; ComponentLink2Description: Supplier link; HelpURL: N.A.; Footprint Doc: 0201; LatestRevisionDate: 2019-04-16; Published: 2019-04-16; Value: 100pF; Note: 25V; Supplier 1: N.A.; Supplier Part Number 1: N.A.; Supplier 2: N.A.; Supplier Part Number 2: N.A.; PartId: 100200044; Component Class: Capacitors; Author: rsk; Part number Norautron: N.A.
footprint CAPC0603X03L_C
pins: 1, 2

## C0201-220n-10V-X5R-GRM033R61A224KE90
designator C?, comment 0.22µF
Capacitor, Ceramic, 0.22µF 10V X5R 0201, ±10%; Part Number: C0201-220n-10V-X5R-GRM033R61A224KE90; Manufacturer: Murata; Manufacturer Part Number: GRM033R61A224KE90D; Part number NEMS: 100200487; Pad Count: 2; Artikkelnr Noca: N.A.; Component Status: Active; Component Class: Capacitors; Author: prbu; ComponentLink1URL: https://www.murata.com/en-sg/products/productdetail?partno=GRM033R61A224KE90%23; ComponentLink1Description: Datasheet; ComponentLink2URL: https://www.mouser.com/ProductDetail/Murata-Electronics/GRM033R61A224KE90D?qs=sGAEpiMZZMtXHE36kCvv3zgoTDayw1zTTbet6g8ub%252Bg%3D; ComponentLink2Description: Supplier link; HelpURL: N.A.; Footprint Doc: 0201; LatestRevisionDate: 2021-12-09; Published: 2021-12-09; Value: 0.22µF; Note: 10V; Supplier 1: Mouser; Supplier Part Number 1: 81-GRM33R61A224KE90D; Supplier 2: Mouser; Supplier Part Number 2: 81-GRM033R61A224KE0J; Part number IPS: N.A.; Part number Norautron: N.A.; PartId: 100200487
footprint CAPC0603X03L_C
pins: 1, 2

## C0201-470n-6.3V-X5R-GRM033R60J474KE90
designator C?, comment 0.47µF
Capacitor, Ceramic, 0.47µF 6.3V X5R 0201,±10%; Part Number: C0201-470n-6.3V-X5R-GRM033R60J474KE90; Manufacturer: Murata; Manufacturer Part Number: GRM033R60J474KE90D; Part number NEMS: 100200488; Pad Count: 2; Artikkelnr Noca: N.A.; Component Status: Active; Component Class: Capacitors; Author: prbu; ComponentLink1URL: https://www.murata.com/en-sg/products/productdetail?partno=GRM033R60J474KE90%23; ComponentLink1Description: Datasheet; ComponentLink2URL: https://www.mouser.com/ProductDetail/Murata-Electronics/GRM033R60J474KE90D?qs=sGAEpiMZZMsKMBVpGK0sItoTn08PM719efpAd7qZWQ4%3D; ComponentLink2Description: Supplier link; HelpURL: N.A.; Footprint Doc: 0201; LatestRevisionDate: 2021-12-09; Published: 2021-12-09; Value: 0.47µF; Note: 6.3V; Supplier 1: Digi-Key; Supplier Part Number 1: 490-10409-1-ND; Supplier 2: Mouser; Supplier Part Number 2: 81-GRM33R60J474KE90D; Part number IPS: N.A.; Part number Norautron: N.A.; PartId: 100200488
footprint CAPC0603X03L_C
pins: 1, 2

## C0201-N.C.
designator C?, comment N.C.
Not mounted; Part Number: C0201-N.C.; Part number NEMS: 100200001; Assembly: Not mounted; Pad Count: 2; Artikkelnr Noca: N.A.; Note: Chip Cap; Component Status: Active; Value: N.C.; Footprint Doc: 0201; Component Class: Capacitors; Author: rsk; ComponentLink1Description: Datasheet; ComponentLink1URL: N.A.; ComponentLink2Description: Supplier link; ComponentLink2URL: N.A.; HelpURL: N.A.; LatestRevisionDate: 2014-11-13; Manufacturer: N.A.; Manufacturer Part Number: N.A.; PartId: 100200001; Part number IPS: N.A.; Part number Norautron: N.A.; Published: 2014-11-13; Supplier 1: N.A.; Supplier 2: N.A.; Supplier Part Number 1: N.A.; Supplier Part Number 2: N.A.
footprint CAPC0603X03L_C_NC
pins: 1, 2

## C0402-0.3p-HQ-Murata
designator Z?, comment 0.3pF
Capacitor, NP0, ±0.05pF, 50V; Part Number: C0402-0.3p-HQ-Murata; Manufacturer: Murata; Manufacturer Part Number: GJM1555C1HR30WB01D; Part number IPS: 00000001777; Part number NEMS: 100200433; Pad Count: 2; Artikkelnr Noca: N.A.; Component Status: Active; Component Class: Capacitors; Author: rsk; ComponentLink1URL: https://search.murata.co.jp/Ceramy/image/img/A01X/G101/ENG/GJM1555C1HR30WB01-01.pdf; ComponentLink1Description: Datasheet; ComponentLink2URL: N.A.; ComponentLink2Description: Supplier link; HelpURL: https://psearch.en.murata.com/capacitor/product/GJM1555C1HR30WB01%23.html; Footprint Doc: 0402; LatestRevisionDate: 2020-02-07; Published: 2019-01-11; Value: 0.3pF; Note: 50V; Supplier 1: Digi-Key; Supplier Part Number 1: 490-11248-1-ND; Supplier 2: Mouser; Supplier Part Number 2: 81-GJM1555C1HR30WB1D; Part number Norautron: N.A.; PartId: 100200433
footprint CAPC1005X04L
footprint C1608X06L-C1005X04M
pins: 1, 2

## C0402-0.4p-50V-NP0-GJM1555C1HR40WB01
designator Z?, comment 0.4pF
Capacitor, NP0, ±0.05pF, 50V; Part Number: C0402-0.4p-50V-NP0-GJM1555C1HR40WB01; Manufacturer: Murata; Manufacturer Part Number: GJM1555C1HR40WB01D; Part number NEMS: 100200500; Pad Count: 2; Artikkelnr Noca: N.A.; Component Status: Active; Component Class: Capacitors; Author: rubr; ComponentLink1URL: https://search.murata.co.jp/Ceramy/image/img/A01X/G101/ENG/GJM1555C1HR40WB01-01A.pdf; ComponentLink1Description: Datasheet; ComponentLink2URL: N.A.; ComponentLink2Description: Supplier link; HelpURL: https://psearch.en.murata.com/inductor/product/GJM1555C1HR40WB01%23.html; Footprint Doc: 0402; LatestRevisionDate: 2022-02-17; Published: 2022-02-17; Value: 0.4pF; Note: 50V; Supplier 1: Digi-Key; Supplier Part Number 1: 490-11249-1-ND; Supplier 2: Mouser; Supplier Part Number 2: 81-GJM1555C1HR40WB1D; Part number IPS: N.A.; Part number Norautron: N.A.; PartId: 100200500
footprint CAPC1005X04L
footprint C1608X06L-C1005X04M (Chip Capacitor, 2-Leads, Body 1.6x0.8mm, IPC High Density)
pins: 1, 2

## C0402-1.8p-HQ-Murata
designator Z?, comment 1.8pF
Capacitor, C0G, ±0.05pF, 50V; Part Number: C0402-1.8p-HQ-Murata; Manufacturer: Murata; Manufacturer Part Number: GJM1555C1H1R8WB01D; Part number NEMS: 100200521; Pad Count: 2; Artikkelnr Noca: N.A.; Component Status: Active; Component Class: Capacitors; Author: masi; ComponentLink1URL: https://www.murata.com/en-global/products/productdetail?partno=GJM1555C1H1R8WB01%23; ComponentLink1Description: Datasheet; ComponentLink2URL: N.A.; ComponentLink2Description: Supplier link; HelpURL: https://search.murata.co.jp/Ceramy/image/img/A01X/G101/ENG/GJM1555C1H1R8WB01-01A.pdf; Footprint Doc: 0402; LatestRevisionDate: 2022-08-18; Published: 2022-08-18; Value: 1.8pF; Note: 50V; Supplier 1: Digi-Key; Supplier Part Number 1: 490-11202-1-ND; Supplier 2: Mouser; Supplier Part Number 2: 81-GJM1555C1H1R8WB1D; Part number IPS: N.A.; Part number Norautron: N.A.; PartId: 100200521
footprint CAPC1005X04L
footprint C1608X06L-C1005X04M (Chip Capacitor, 2-Leads, Body 1.6x0.8mm, IPC High Density)
pins: 1, 2

## C0402-1µ0-10V-X5R
designator C?, comment 1.0µF
Capacitor, Ceramic, X5R, ±10%, 10V; Part Number: C0402-1µ0-10V-X5R; Manufacturer: N.A.; Part number NEMS: 100200482; Pad Count: 2; Component Status: Active; Value: 1.0µF; Footprint Doc: 0402; Component Class: Capacitors; Author: rubr; PartId: 100200482; Manufacturer Part Number: N.A.; ComponentLink1URL: N.A.; ComponentLink1Description: Datasheet; ComponentLink2URL: N.A.; ComponentLink2Description: Supplier link; HelpURL: N.A.; LatestRevisionDate: 2021-07-22; Published: 2021-07-22; Note: 10V; Supplier 1: N.A.; Supplier Part Number 1: N.A.; Supplier 2: N.A.; Supplier Part Number 2: N.A.; Artikkelnr Noca: N.A.; Part number IPS: N.A.; Part number Norautron: N.A.
footprint CAPC1005X04L
pins: 1, 2

## C0402-1µ0-10V-X7S-GRM155C71A105KE11
designator C?, comment 1.0µF
Capacitor, Ceramic, 1.0µF 10V X7S 0402,±10%; Part Number: C0402-1µ0-10V-X7S-GRM155C71A105KE11; Manufacturer: Murata; Manufacturer Part Number: GRM155C71A105KE11D; Part number NEMS: 100200497; Pad Count: 2; Artikkelnr Noca: N.A.; Component Status: Active; Component Class: Capacitors; Author: prbu; ComponentLink1URL: https://www.murata.com/en-sg/products/productdetail?partno=GRM155C71A105KE11%23; ComponentLink1Description: Datasheet; ComponentLink2URL: https://www.digikey.com/en/products/detail/murata-electronics/GRM155C71A105KE11D/6606086; ComponentLink2Description: Supplier link; HelpURL: N.A.; Footprint Doc: 0402; LatestRevisionDate: 2021-12-09; Published: 2021-12-09; Value: 1.0µF; Note: 10V; Supplier 1: Mouser; Supplier Part Number 1: 81-GRM155C71A105KE1J; Supplier 2: Digi-Key; Supplier Part Number 2: 490-14457-1-ND; Part number IPS: N.A.; Part number Norautron: N.A.; PartId: 100200497
footprint CAPC1005X04L
pins: 1, 2

## C0402-1µ0-16V-X6S-GRM155C81C105KE11D
designator C?, comment 1.0µF
Capacitor, Ceramic, 1.0µF 16V X6S 0402,±10%; Part Number: C0402-1µ0-16V-X6S-GRM155C81C105KE11D; Manufacturer: Murata; Manufacturer Part Number: GRM155C81C105KE11D; Part number NEMS: 100200516; Pad Count: 2; Artikkelnr Noca: N.A.; Component Status: Active; Component Class: Capacitors; Author: prbu; ComponentLink1URL: https://www.murata.com/en-sg/products/productdetail?partno=GRM155C81C105KE11%23; ComponentLink1Description: Datasheet; ComponentLink2URL: https://www.digikey.com/en/products/detail/murata-electronics/GRM155C81C105KE11D/4905091; ComponentLink2Description: Supplier link; HelpURL: N.A.; Footprint Doc: 0402; LatestRevisionDate: 2023-01-03; Published: 2022-07-01; Value: 1.0µF; Note: 16V; Supplier 1: Digi-Key; Supplier Part Number 1: 490-12700-2-ND; Supplier 2: Mouser; Supplier Part Number 2: 81-GRM155C81C105KE1D; Part number IPS: N.A.; Part number Norautron: N.A.; PartId: 100200516
footprint CAPC1005X04L
pins: 1, 2

## C0402-1µ0-35V-X5R-GRM155R6YA105KE11
designator C?, comment 1.0µF
Capacitor, Ceramic, 1.0µF 35V X5R 0402,±10%; Part Number: C0402-1µ0-35V-X5R-GRM155R6YA105KE11; Manufacturer: Murata; Manufacturer Part Number: GRM155R6YA105KE11D; Part number NEMS: 100200489; Pad Count: 2; Artikkelnr Noca: N.A.; Component Status: Active; Component Class: Capacitors; Author: prbu; ComponentLink1URL: https://www.murata.com/en-sg/products/productdetail?partno=GRM155R6YA105KE11%23; ComponentLink1Description: Datasheet; ComponentLink2URL: https://www.digikey.com/en/products/detail/murata-electronics/GRM155R6YA105KE11D/4905162; ComponentLink2Description: Supplier link; HelpURL: N.A.; Footprint Doc: 0402; LatestRevisionDate: 2021-12-09; Published: 2021-12-09; Value: 1.0µF; Note: 35V; Supplier 1: Mouser; Supplier Part Number 1: 81-GRM155R6YA105KE1D; Supplier 2: Digi-Key; Supplier Part Number 2: 490-10019-1-ND; Part number IPS: N.A.; Part number Norautron: N.A.; PartId: 100200489
footprint CAPC1005X04L
pins: 1, 2

## C0402-2.1p-50V-NP0-GJM1555C1H2R1WB01
designator Z?, comment 2.1pF
Capacitor, NP0, ±0.05pF, 50V; Part Number: C0402-2.1p-50V-NP0-GJM1555C1H2R1WB01; Manufacturer: Murata; Manufacturer Part Number: GJM1555C1H2R1WB01D; Part number NEMS: 100200533; Pad Count: 2; Note: N.A.; Component Status: Active; Component Class: Capacitors; Author: rubr; ComponentLink1URL: https://search.murata.co.jp/Ceramy/image/img/A01X/G101/ENG/GJM1555C1H2R1WB01-01.pdf; ComponentLink1Description: Datasheet; ComponentLink2URL: https://www.digikey.com/en/products/detail/murata-electronics/GJM1555C1H2R1WB01D/2592918; ComponentLink2Description: Supplier link; HelpURL: https://www.murata.com/en-us/products/productdetail?partno=GJM1555C1H2R1WB01%23; Footprint Doc: 0402; LatestRevisionDate: 2022-12-16; Published: 2022-12-16; Value: 2.1pF; Supplier 1: Digi-Key; Supplier Part Number 1: 490-GJM1555C1H2R1WB01DCT-ND; Supplier 2: N.A.; Supplier Part Number 2: N.A.; Artikkelnr Noca: N.A.; Part number IPS: N.A.; Part number Norautron: N.A.; PartId: 100200533
footprint CAPC1005X04L
footprint C1608X06L-C1005X04M
pins: 1, 2

## C0402-2µ2-10V-X7R-GRM155Z71A225KE44D
designator C?, comment 2.2µF
Capacitor, Ceramic, X7R, ±10%, 10V; Part Number: C0402-2µ2-10V-X7R-GRM155Z71A225KE44D; Manufacturer: Murata; Manufacturer Part Number: GRM155Z71A225KE44D; Part number NEMS: 100200653; Component Status: Active; Pad Count: 2; Note: -55°C ~ 125°C; Artikkelnr Noca: N.A.; PartId: 100200653; Component Class: Capacitors; Author: ersa; ComponentLink1URL: https://search.murata.co.jp/Ceramy/image/img/A01X/G101/ENG/GRM155Z71A225KE44-01A.pdf; ComponentLink1Description: Datasheet; ComponentLink2URL: N.A.; ComponentLink2Description: Supplier link; HelpURL: N.A.; LatestRevisionDate: 2024-02-07; Published: 2024-02-07; Footprint Doc: 0402; Value: 2.2µF; Supplier 1: Digi-Key; Supplier Part Number 1: 490-GRM155Z71A225KE44DTR-ND; Supplier 2: N.A.; Supplier Part Number 2: N.A.; Part number IPS: N.A.; Part number Norautron: N.A.
footprint CAPC1005X04L_C2
pins: 1, 2

## C0402-2µ2-25V-X5R-GRM155R61E225KE11
designator C?, comment 2.2µF
Capacitor, Ceramic, 2.2µF 25V X5R 0402,±10%; Part Number: C0402-2µ2-25V-X5R-GRM155R61E225KE11; Manufacturer: Murata; Manufacturer Part Number: GRM155R61E225KE11D; Part number NEMS: 100200492; Pad Count: 2; Artikkelnr Noca: N.A.; Component Status: Active; Component Class: Capacitors; Author: prbu; ComponentLink1URL: https://www.murata.com/en-sg/products/productdetail?partno=GRM155R61E225KE11%23; ComponentLink1Description: Datasheet; ComponentLink2URL: https://www.mouser.com/ProductDetail/Murata-Electronics/GRM155R61E225KE11D?qs=eeBpzGFlv%252B8X58bIUndZvA%3D%3D; ComponentLink2Description: Supplier link; HelpURL: N.A.; Footprint Doc: 0402; LatestRevisionDate: 2021-12-09; Published: 2021-12-09; Value: 2.2µF; Note: 25V; Supplier 1: Mouser; Supplier Part Number 1: 81-GRM155R61E225KE1D; Supplier 2: Digi-Key; Supplier Part Number 2: 490-12703-1-ND; Part number IPS: N.A.; Part number Norautron: N.A.; PartId: 100200492
footprint CAPC1005X04L
pins: 1, 2

## C0402-4µ7
designator C?, comment 4.7µF
Capacitor, X5R, ±20%; Part Number: C0402-4µ7; Manufacturer: N.A.; Part number IPS: 00000001251, 00000007165; Part number NEMS: 100200193; Pad Count: 2; Component Status: Active; Note: 10V; Artikkelnr Noca: 20039482; Footprint Doc: 0402; Value: 4.7µF; Author: rsk; PartId: 100200193; Component Class: Capacitors; Manufacturer Part Number: N.A.; ComponentLink1URL: N.A.; ComponentLink1Description: Datasheet; ComponentLink2URL: N.A.; ComponentLink2Description: Supplier link; HelpURL: N.A.; LatestRevisionDate: 2017-11-09; Published: 2009-05-08; Supplier 1: Digi-Key; Supplier Part Number 1: 490-13252-1-ND; Supplier 2: N.A.; Supplier Part Number 2: N.A.; Part number Norautron: N.A.
footprint CAPC1005X04L
pins: 1, 2

## C0402-6.0p-50V-NP0-GJM1555C1H6R0WB01
designator Z?, comment 6.0pF
Capacitor, NP0, ±0.05pF, 50V; Part Number: C0402-6.0p-50V-NP0-GJM1555C1H6R0WB01; Manufacturer: Murata; Manufacturer Part Number: GJM1555C1H6R0WB01D; Part number NEMS: 100200532; Pad Count: 2; Note: N.A.; Component Status: Active; Component Class: Capacitors; Author: rubr; ComponentLink1URL: https://search.murata.co.jp/Ceramy/image/img/A01X/G101/ENG/GJM1555C1H6R0WB01-01.pdf; ComponentLink1Description: Datasheet; ComponentLink2URL: https://www.digikey.com/en/products/detail/murata-electronics/GJM1555C1H6R0WB01D/2593066; ComponentLink2Description: Supplier link; HelpURL: https://www.murata.com/en-us/products/productdetail?partno=GJM1555C1H6R0WB01%23; Footprint Doc: 0402; LatestRevisionDate: 2022-12-16; Published: 2022-12-16; Value: 6.0pF; Supplier 1: Digi-Key; Supplier Part Number 1: 490-11230-1-ND; Supplier 2: N.A.; Supplier Part Number 2: N.A.; Artikkelnr Noca: N.A.; Part number IPS: N.A.; Part number Norautron: N.A.; PartId: 100200532
footprint CAPC1005X04L
footprint C1608X06L-C1005X04M
pins: 1, 2

## C0402-N.C.
designator Z?, comment N.C.
Not mounted; Part Number: C0402-N.C.; Manufacturer: N.A.; Part number NEMS: 100200105; Pad Count: 2; Note: Chip Cap; Assembly: Not mounted; Component Status: Active; Component Class: Capacitors; Author: rsk; Manufacturer Part Number: N.A.; ComponentLink1URL: N.A.; ComponentLink1Description: Datasheet; ComponentLink2URL: N.A.; ComponentLink2Description: Supplier link; HelpURL: N.A.; Footprint Doc: 0402; LatestRevisionDate: 2009-05-08; Published: 2009-05-08; Value: N.C.; Supplier 1: N.A.; Supplier Part Number 1: N.A.; Supplier 2: N.A.; Supplier Part Number 2: N.A.; Artikkelnr Noca: N.A.; Part number IPS: N.A.; Part number Norautron: N.A.; PartId: 100200105
footprint CAPC1005X04L_NC
footprint C1608X06L-C1005X04M
pins: 1, 2

## C0603-1µ0-10V-X5R
designator C?, comment 1.0µF
Capacitor, Ceramic, 1.0µF 10V X5R 0603,±10%; Part Number: C0603-1µ0-10V-X5R; Manufacturer: N.A.; Part number NEMS: 100200528; Pad Count: 2; Component Status: Active; Manufacturer Part Number: N.A.; Footprint Doc: 0603; LatestRevisionDate: 2022-10-06; Published: 2022-10-06; Value: 1.0µF; Note: 10V; Artikkelnr Noca: N.A.; Part number IPS: N.A.; ComponentLink1URL: N.A.; ComponentLink1Description: Datasheet; ComponentLink2URL: N.A.; ComponentLink2Description: Supplier link; HelpURL: N.A.; Supplier 1: N.A.; Supplier Part Number 1: N.A.; Supplier 2: N.A.; Supplier Part Number 2: N.A.; Component Class: Capacitors; PartId: 100200528; Author: getr; Part number Norautron: N.A.
footprint CAPC1608X06L
pins: 1, 2

## C0603-2.2µ-16V-X7R
designator C?, comment 2.2µF
Capacitor, Ceramic, X7R, ±10%, 16V; Part Number: C0603-2.2µ-16V-X7R; Manufacturer: Taiyo Yuden; Manufacturer Part Number: EMK107BB7225KA-T; Part number NEMS: 100200439; Component Status: Active; Pad Count: 2; Artikkelnr Noca: N.A.; PartId: 100200439; Component Class: Capacitors; Author: rsk; ComponentLink1URL: https://ds.yuden.co.jp/TYCOMPAS/ut/specSheet?pn=EMK107BB7225KA-T; ComponentLink1Description: Datasheet; ComponentLink2URL: https://ds.yuden.co.jp/TYCOMPAS/ut/detail?pn=EMK107BB7225KA-T&u=M; ComponentLink2Description: Supplier link; HelpURL: https://www.digikey.no/product-detail/en/taiyo-yuden/EMK107BB7225KA-T/587-5835-2-ND/4970646; LatestRevisionDate: 2020-10-13; Published: 2020-02-03; Footprint Doc: 0603; Value: 2.2µF; Note: 16V; Supplier 1: Digi-Key; Supplier Part Number 1: 587-5835-2-ND; Supplier 2: N.A.; Supplier Part Number 2: N.A.; Part number IPS: N.A.; Part number Norautron: N.A.
footprint CAPC1608X06L
pins: 1, 2

## C0603-2µ2-16V-X7S-GRM188C71C225KE11
designator C?, comment 2.2µF
Capacitor, Ceramic, 2.2µF 16V X7S 0603,±10%; Part Number: C0603-2µ2-16V-X7S-GRM188C71C225KE11; Manufacturer: Murata; Manufacturer Part Number: GRM188C71C225KE11D; Part number NEMS: 100200490; Pad Count: 2; Artikkelnr Noca: N.A.; Component Status: Active; PartId: 100200490; Component Class: Capacitors; Author: prbu; ComponentLink1URL: https://www.murata.com/en-sg/products/productdetail?partno=GRM188C71C225KE11%23; ComponentLink1Description: Datasheet; ComponentLink2URL: https://www.mouser.com/ProductDetail/Murata-Electronics/GRM188C71C225KE11D?qs=ipkqEa07%2FjwigLKmkO4MzA%3D%3D; ComponentLink2Description: Supplier link; HelpURL: N.A.; Footprint Doc: 0603; LatestRevisionDate: 2021-12-09; Published: 2021-12-09; Value: 2.2µF; Note: 16V; Supplier 1: Mouser; Supplier Part Number 1: 81-GRM188C71C225KE1D; Supplier 2: Digi-Key; Supplier Part Number 2: 490-12731-1-ND; Part number IPS: N.A.; Part number Norautron: N.A.
footprint CAPC1608X06L
pins: 1, 2

## C0603-4µ7
designator C?, comment 4.7µF
Capacitor, X5R, ±10%, 6.3V; Part Number: C0603-4µ7; Manufacturer: N.A.; Part number IPS: 00000007783; Part number NEMS: 100200274; Pad Count: 2; Component Status: Active; Artikkelnr Noca: 20069060; Component Class: Capacitors; Author: rsk; Footprint Doc: 0603; Value: 4.7µF; PartId: 100200274; Manufacturer Part Number: N.A.; ComponentLink1URL: N.A.; ComponentLink1Description: Datasheet; ComponentLink2URL: N.A.; ComponentLink2Description: Supplier link; HelpURL: N.A.; LatestRevisionDate: 2009-11-23; Published: 2009-05-08; Note: 6.3V; Supplier 1: N.A.; Supplier Part Number 1: N.A.; Supplier 2: N.A.; Supplier Part Number 2: N.A.; Part number Norautron: N.A.
footprint CAPC1608X06L
pins: 1, 2

## C0603-4µ7-6.3V-X7R
designator C?, comment 4.7µF
Capacitor, X7R, ±10%, 6.3V; Part Number: C0603-4µ7-6.3V-X7R; Manufacturer: Samsung Electro-Mechanics America; Manufacturer Part Number: CL10B475KQ8NQNC; Part number IPS: 00000002541; Part number Norautron: N.A.; Part number NEMS: 100200350; Pad Count: 2; Artikkelnr Noca: 20039473; Component Status: Active; Value: 4.7µF; Footprint Doc: 0603; Component Class: Capacitors; Author: rsk; ComponentLink1Description: Datasheet; ComponentLink1URL: N.A.; ComponentLink2Description: Supplier link; ComponentLink2URL: N.A.; HelpURL: http://media.digikey.com/pdf/Data%20Sheets/Samsung%20PDFs/CL10B475KQ8NQNC_Spec.pdf; LatestRevisionDate: 2015-06-10; Note: 6.3V; PartId: 100200350; Published: 2015-06-10; Supplier 1: Digi-Key; Supplier 2: N.A.; Supplier Part Number 1: 1276-2087-1-ND; Supplier Part Number 2: N.A.
footprint CAPC1608X06L
pins: 1, 2